# Altium schematic symbol library Molex FFC - FPC Connectors (Through-Hole).SchLib: 219 symbols (part 1 of 7)
Pins are listed as number, name and electrical type; pins without a type are passive.

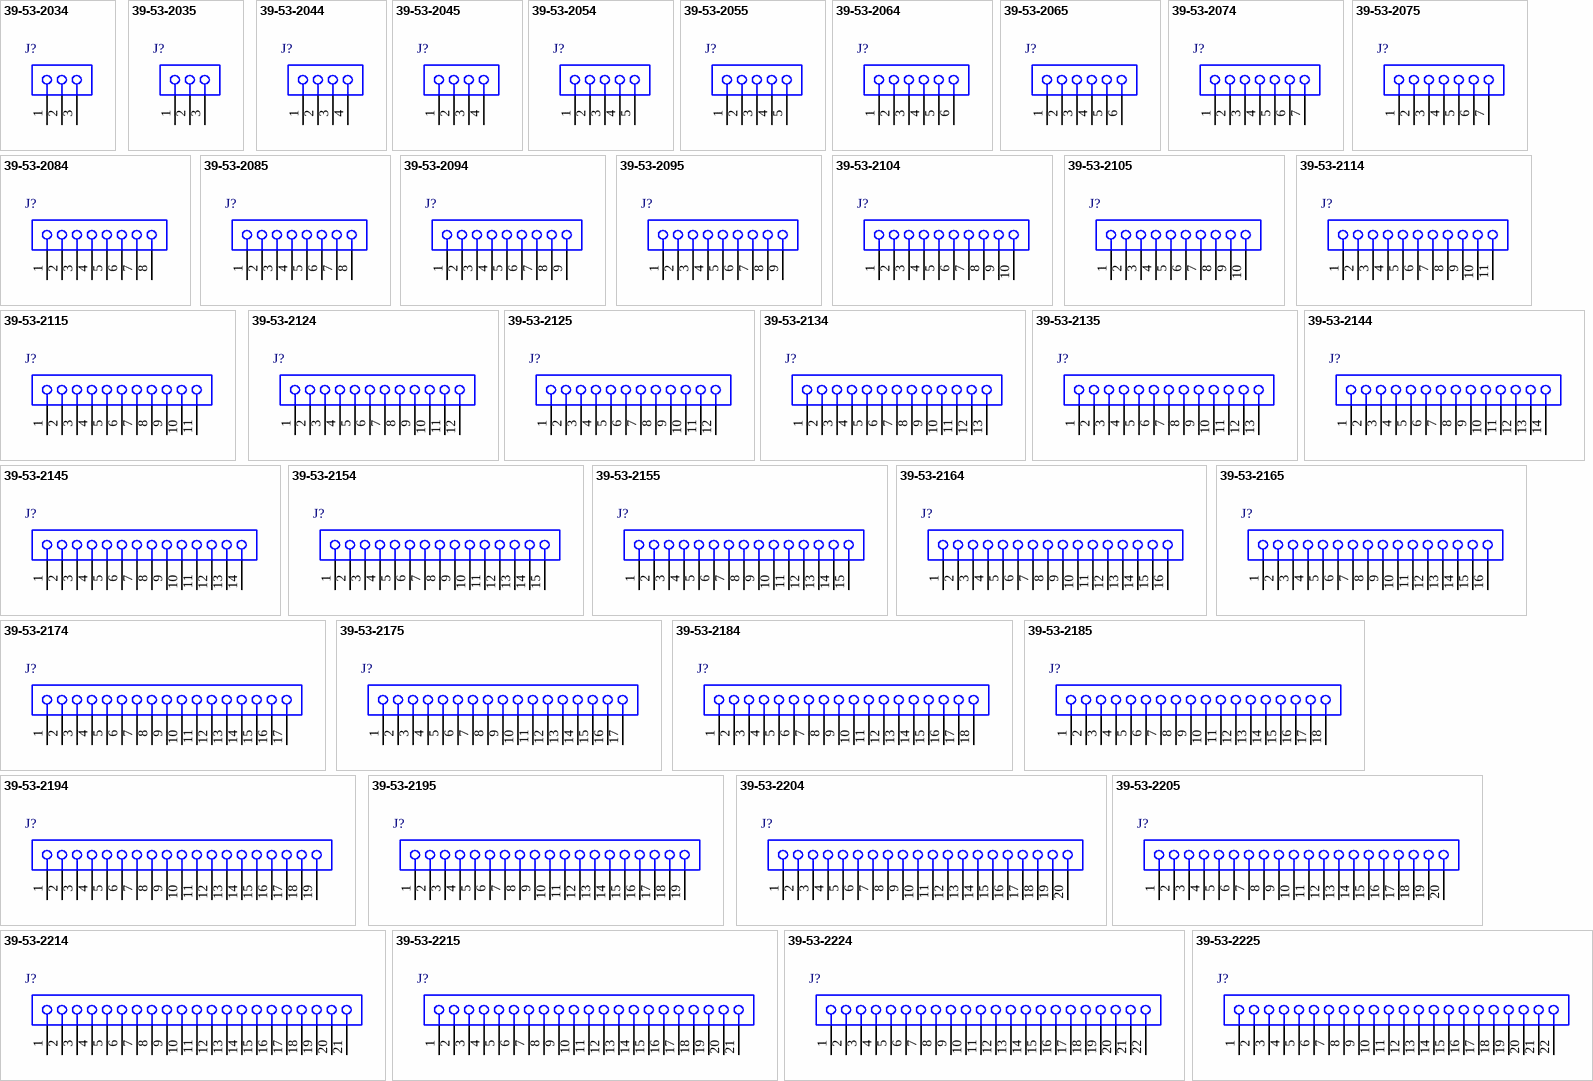
[diagram p0: symbols 39-53-2034 to 39-53-2225]

## 39-53-2034
designator J?
1.25 mm Pitch FPC Connector, 5.0 mm Mated Height, Right Angle, ZIF, Through Hole, Top Contact, 3 Circuits, -20 to 80 degC, ELV and RoHS Compliant, Tray; Manufacturer: Molex; Circuits (Loaded): 3; Current (Max per Contact): 1A; Durability (mating cycles max): 30; Entry Angle: 90degrees Angle; Mated Height: 5.00mm; Material - Metal: Phosphor Bronze; Material - Plating Mating: Tin-Bismuth; PCB Locator: No; PCB Retention: None; Pitch - Mating Interface: 1.25mm; Voltage (Max): 200V; PackageVersion: Rev. B, 04/2007; PackageReference: 39-53-2034; PackageDescription: 3-Lead FPC Connector, Pitch 1.25 mm; Contact Position: Top; Material - Plating Termination: Tin-Bismuth; Number of Rows: 1; Orientation: Right Angle; Packing: Tray; Polarized to PCB: No; RoHS: TRUE; Stackable: No; Mounting Technology: Through Hole; PartNumber: 39-53-2034; ComponentLink1Description: Manufacturer URL; ComponentLink1URL: http://www.molex.com/molex/index.jsp; ComponentLink2Description: Datasheet; ComponentLink2URL: http://www.molex.com/webdocs/datasheets/pdf/en-us/0039532034_FFC_FPC_CONNECTORS.pdf; ComponentLink3Description: Package Specification; ComponentLink3URL: http://www.molex.com/pdm_docs/sd/039532034_sd.pdf
footprint MOLX-39-53-2034 (FPC Connector, 3-Leads, Right Angle, Pitch 1.25 mm, Mated Height 5.0 mm, Through Hole)
pins: 1, 2, 3

## 39-53-2035
designator J?
1.25 mm Pitch FPC Connector, 7.5 mm Mated Height, Vertical, ZIF, Through Hole, 3 Circuits, -20 to 80 degC, ELV and RoHS Compliant, Tray; Manufacturer: Molex; Circuits (Loaded): 3; Current (Max per Contact): 1A; Durability (mating cycles max): 30; Mated Height: 7.50mm; Material - Metal: Phosphor Bronze; Material - Plating Mating: Tin-Bismuth; PCB Locator: No; PCB Retention: None; Pitch - Mating Interface: 1.25mm; Voltage (Max): 200V; PackageVersion: Rev. A, 12/2004; PackageReference: 39-53-2035; PackageDescription: 3-Lead FPC Connector, Pitch 1.25 mm; Contact Position: N/A; Entry Angle: Vertical; Material - Plating Termination: Tin-Bismuth; Number of Rows: 1; Orientation: Vertical; Packing: Tray; Polarized to PCB: No; RoHS: TRUE; Stackable: No; Mounting Technology: Through Hole; PartNumber: 39-53-2035; ComponentLink1Description: Manufacturer URL; ComponentLink1URL: http://www.molex.com/molex/index.jsp; ComponentLink2Description: Datasheet; ComponentLink2URL: http://www.molex.com/webdocs/datasheets/pdf/en-us/0039532035_FFC_FPC_CONNECTORS.pdf; ComponentLink3Description: Package Specification; ComponentLink3URL: http://www.molex.com/pdm_docs/sd/039532035_sd.pdf
footprint MOLX-39-53-2035 (FPC Connector, 3-Leads, Vertical, Pitch 1.25 mm, Mated Height 7.5 mm, Through Hole)
pins: 1, 2, 3

## 39-53-2044
designator J?
1.25 mm Pitch FPC Connector, 5.0 mm Mated Height, Right Angle, ZIF, Through Hole, Top Contact, 4 Circuits, -20 to 80 degC, ELV and RoHS Compliant, Tray; Manufacturer: Molex; Circuits (Loaded): 4; Current (Max per Contact): 1A; Durability (mating cycles max): 30; Entry Angle: 90degrees Angle; Mated Height: 5.00mm; Material - Metal: Phosphor Bronze; Material - Plating Mating: Tin-Bismuth; PCB Locator: No; PCB Retention: None; Pitch - Mating Interface: 1.25mm; Voltage (Max): 200V; PackageVersion: Rev. B, 04/2007; PackageReference: 39-53-2044; PackageDescription: 4-Lead FPC Connector, Pitch 1.25 mm; Contact Position: Top; Material - Plating Termination: Tin-Bismuth; Number of Rows: 1; Orientation: Right Angle; Packing: Tray; Polarized to PCB: No; RoHS: TRUE; Stackable: No; Mounting Technology: Through Hole; PartNumber: 39-53-2044; ComponentLink1Description: Manufacturer URL; ComponentLink1URL: http://www.molex.com/molex/index.jsp; ComponentLink2Description: Datasheet; ComponentLink2URL: http://www.molex.com/webdocs/datasheets/pdf/en-us/0039532044_FFC_FPC_CONNECTORS.pdf; ComponentLink3Description: Package Specification; ComponentLink3URL: http://www.molex.com/pdm_docs/sd/039532044_sd.pdf
footprint MOLX-39-53-2044 (FPC Connector, 4-Leads, Right Angle, Pitch 1.25 mm, Mated Height 5.0 mm, Through Hole)
pins: 1, 2, 3, 4

## 39-53-2045
designator J?
1.25 mm Pitch FPC Connector, 7.5 mm Mated Height, Vertical, ZIF, Through Hole, 4 Circuits, -20 to 80 degC, ELV and RoHS Compliant, Tray; Manufacturer: Molex; Circuits (Loaded): 4; Current (Max per Contact): 1A; Durability (mating cycles max): 30; Mated Height: 7.50mm; Material - Metal: Phosphor Bronze; Material - Plating Mating: Tin-Bismuth; PCB Locator: No; PCB Retention: None; Pitch - Mating Interface: 1.25mm; Voltage (Max): 200V; PackageVersion: Rev. A, 12/2004; PackageReference: 39-53-2045; PackageDescription: 4-Lead FPC Connector, Pitch 1.25 mm; Contact Position: N/A; Entry Angle: Vertical; Material - Plating Termination: Tin-Bismuth; Number of Rows: 1; Orientation: Vertical; Packing: Tray; Polarized to PCB: No; RoHS: TRUE; Stackable: No; Mounting Technology: Through Hole; PartNumber: 39-53-2045; ComponentLink1Description: Manufacturer URL; ComponentLink1URL: http://www.molex.com/molex/index.jsp; ComponentLink2Description: Datasheet; ComponentLink2URL: http://www.molex.com/webdocs/datasheets/pdf/en-us/0039532045_FFC_FPC_CONNECTORS.pdf; ComponentLink3Description: Package Specification; ComponentLink3URL: http://www.molex.com/pdm_docs/sd/039532045_sd.pdf
footprint MOLX-39-53-2045 (FPC Connector, 4-Leads, Vertical, Pitch 1.25 mm, Mated Height 7.5 mm, Through Hole)
pins: 1, 2, 3, 4

## 39-53-2054
designator J?
1.25 mm Pitch FPC Connector, 5.0 mm Mated Height, Right Angle, ZIF, Through Hole, Top Contact, 5 Circuits, -20 to 80 degC, ELV and RoHS Compliant, Tray; Manufacturer: Molex; Circuits (Loaded): 5; Current (Max per Contact): 1A; Durability (mating cycles max): 30; Entry Angle: 90degrees Angle; Mated Height: 5.00mm; Material - Metal: Phosphor Bronze; Material - Plating Mating: Tin-Bismuth; PCB Locator: No; PCB Retention: None; Pitch - Mating Interface: 1.25mm; Voltage (Max): 200V; PackageVersion: Rev. B, 04/2007; PackageReference: 39-53-2054; PackageDescription: 5-Lead FPC Connector, Pitch 1.25 mm; Contact Position: Top; Material - Plating Termination: Tin-Bismuth; Number of Rows: 1; Orientation: Right Angle; Packing: Tray; Polarized to PCB: No; RoHS: TRUE; Stackable: No; Mounting Technology: Through Hole; PartNumber: 39-53-2054; ComponentLink1Description: Manufacturer URL; ComponentLink1URL: http://www.molex.com/molex/index.jsp; ComponentLink2Description: Datasheet; ComponentLink2URL: http://www.molex.com/webdocs/datasheets/pdf/en-us/0039532054_FFC_FPC_CONNECTORS.pdf; ComponentLink3Description: Package Specification; ComponentLink3URL: http://www.molex.com/pdm_docs/sd/039532054_sd.pdf
footprint MOLX-39-53-2054 (FPC Connector, 5-Leads, Right Angle, Pitch 1.25 mm, Mated Height 5.0 mm, Through Hole)
pins: 1, 2, 3, 4, 5

## 39-53-2055
designator J?
1.25 mm Pitch FPC Connector, 7.5 mm Mated Height, Vertical, ZIF, Through Hole, 5 Circuits, -20 to 80 degC, ELV and RoHS Compliant, Tray; Manufacturer: Molex; Circuits (Loaded): 5; Current (Max per Contact): 1A; Durability (mating cycles max): 30; Mated Height: 7.50mm; Material - Metal: Phosphor Bronze; Material - Plating Mating: Tin-Bismuth; PCB Locator: No; PCB Retention: None; Pitch - Mating Interface: 1.25mm; Voltage (Max): 200V; PackageVersion: Rev. A, 12/2004; PackageReference: 39-53-2055; PackageDescription: 5-Lead FPC Connector, Pitch 1.25 mm; Contact Position: N/A; Entry Angle: Vertical; Material - Plating Termination: Tin-Bismuth; Number of Rows: 1; Orientation: Vertical; Packing: Tray; Polarized to PCB: No; RoHS: TRUE; Stackable: No; Mounting Technology: Through Hole; PartNumber: 39-53-2055; ComponentLink1Description: Manufacturer URL; ComponentLink1URL: http://www.molex.com/molex/index.jsp; ComponentLink2Description: Datasheet; ComponentLink2URL: http://www.molex.com/webdocs/datasheets/pdf/en-us/0039532055_FFC_FPC_CONNECTORS.pdf; ComponentLink3Description: Package Specification; ComponentLink3URL: http://www.molex.com/pdm_docs/sd/039532055_sd.pdf
footprint MOLX-39-53-2055 (FPC Connector, 5-Leads, Vertical, Pitch 1.25 mm, Mated Height 7.5 mm, Through Hole)
pins: 1, 2, 3, 4, 5

## 39-53-2064
designator J?
1.25 mm Pitch FPC Connector, 5.0 mm Mated Height, Right Angle, ZIF, Through Hole, Top Contact, 6 Circuits, -20 to 80 degC, ELV and RoHS Compliant, Tray; Manufacturer: Molex; Circuits (Loaded): 6; Current (Max per Contact): 1A; Durability (mating cycles max): 30; Entry Angle: 90degrees Angle; Mated Height: 5.00mm; Material - Metal: Phosphor Bronze; Material - Plating Mating: Tin-Bismuth; PCB Locator: No; PCB Retention: None; Pitch - Mating Interface: 1.25mm; Voltage (Max): 200V; PackageVersion: Rev. B, 04/2007; PackageReference: 39-53-2064; PackageDescription: 6-Lead FPC Connector, Pitch 1.25 mm; Contact Position: Top; Material - Plating Termination: Tin-Bismuth; Number of Rows: 1; Orientation: Right Angle; Packing: Tray; Polarized to PCB: No; RoHS: TRUE; Stackable: No; Mounting Technology: Through Hole; PartNumber: 39-53-2064; ComponentLink1Description: Manufacturer URL; ComponentLink1URL: http://www.molex.com/molex/index.jsp; ComponentLink2Description: Datasheet; ComponentLink2URL: http://www.molex.com/webdocs/datasheets/pdf/en-us/0039532064_FFC_FPC_CONNECTORS.pdf; ComponentLink3Description: Package Specification; ComponentLink3URL: http://www.molex.com/pdm_docs/sd/039532064_sd.pdf
footprint MOLX-39-53-2064 (FPC Connector, 6-Leads, Right Angle, Pitch 1.25 mm, Mated Height 5.0 mm, Through Hole)
pins: 1, 2, 3, 4, 5, 6

## 39-53-2065
designator J?
1.25 mm Pitch FPC Connector, 7.5 mm Mated Height, Vertical, ZIF, Through Hole, 6 Circuits, -20 to 80 degC, ELV and RoHS Compliant, Tray; Manufacturer: Molex; Circuits (Loaded): 6; Current (Max per Contact): 1A; Durability (mating cycles max): 30; Mated Height: 7.50mm; Material - Metal: Phosphor Bronze; Material - Plating Mating: Tin-Bismuth; PCB Locator: No; PCB Retention: None; Pitch - Mating Interface: 1.25mm; Voltage (Max): 200V; PackageVersion: Rev. A, 12/2004; PackageReference: 39-53-2065; PackageDescription: 6-Lead FPC Connector, Pitch 1.25 mm; Contact Position: N/A; Entry Angle: Vertical; Material - Plating Termination: Tin-Bismuth; Number of Rows: 1; Orientation: Vertical; Packing: Tray; Polarized to PCB: No; RoHS: TRUE; Stackable: No; Mounting Technology: Through Hole; PartNumber: 39-53-2065; ComponentLink1Description: Manufacturer URL; ComponentLink1URL: http://www.molex.com/molex/index.jsp; ComponentLink2Description: Datasheet; ComponentLink2URL: http://www.molex.com/webdocs/datasheets/pdf/en-us/0039532065_FFC_FPC_CONNECTORS.pdf; ComponentLink3Description: Package Specification; ComponentLink3URL: http://www.molex.com/pdm_docs/sd/039532065_sd.pdf
footprint MOLX-39-53-2065 (FPC Connector, 6-Leads, Vertical, Pitch 1.25 mm, Mated Height 7.5 mm, Through Hole)
pins: 1, 2, 3, 4, 5, 6

## 39-53-2074
designator J?
1.25 mm Pitch FPC Connector, 5.0 mm Mated Height, Right Angle, ZIF, Through Hole, Top Contact, 7 Circuits, -20 to 80 degC, ELV and RoHS Compliant, Tray; Manufacturer: Molex; Circuits (Loaded): 7; Current (Max per Contact): 1A; Durability (mating cycles max): 30; Entry Angle: 90degrees Angle; Mated Height: 5.00mm; Material - Metal: Phosphor Bronze; Material - Plating Mating: Tin-Bismuth; PCB Locator: No; PCB Retention: None; Pitch - Mating Interface: 1.25mm; Voltage (Max): 200V; PackageVersion: Rev. B, 04/2007; PackageReference: 39-53-2074; PackageDescription: 7-Lead FPC Connector, Pitch 1.25 mm; Contact Position: Top; Material - Plating Termination: Tin-Bismuth; Number of Rows: 1; Orientation: Right Angle; Packing: Tray; Polarized to PCB: No; RoHS: TRUE; Stackable: No; Mounting Technology: Through Hole; PartNumber: 39-53-2074; ComponentLink1Description: Manufacturer URL; ComponentLink1URL: http://www.molex.com/molex/index.jsp; ComponentLink2Description: Datasheet; ComponentLink2URL: http://www.molex.com/webdocs/datasheets/pdf/en-us/0039532074_FFC_FPC_CONNECTORS.pdf; ComponentLink3Description: Package Specification; ComponentLink3URL: http://www.molex.com/pdm_docs/sd/039532074_sd.pdf
footprint MOLX-39-53-2074 (FPC Connector, 7-Leads, Right Angle, Pitch 1.25 mm, Mated Height 5.0 mm, Through Hole)
pins: 1, 2, 3, 4, 5, 6, 7

## 39-53-2075
designator J?
1.25 mm Pitch FPC Connector, 7.5 mm Mated Height, Vertical, ZIF, Through Hole, 7 Circuits, -20 to 80 degC, ELV and RoHS Compliant, Tray; Manufacturer: Molex; Circuits (Loaded): 7; Current (Max per Contact): 1A; Durability (mating cycles max): 30; Mated Height: 7.50mm; Material - Metal: Phosphor Bronze; Material - Plating Mating: Tin-Bismuth; PCB Locator: No; PCB Retention: None; Pitch - Mating Interface: 1.25mm; Voltage (Max): 200V; PackageVersion: Rev. A, 12/2004; PackageReference: 39-53-2075; PackageDescription: 7-Lead FPC Connector, Pitch 1.25 mm; Contact Position: N/A; Entry Angle: Vertical; Material - Plating Termination: Tin-Bismuth; Number of Rows: 1; Orientation: Vertical; Packing: Tray; Polarized to PCB: No; RoHS: TRUE; Stackable: No; Mounting Technology: Through Hole; PartNumber: 39-53-2075; ComponentLink1Description: Manufacturer URL; ComponentLink1URL: http://www.molex.com/molex/index.jsp; ComponentLink2Description: Datasheet; ComponentLink2URL: http://www.molex.com/webdocs/datasheets/pdf/en-us/0039532075_FFC_FPC_CONNECTORS.pdf; ComponentLink3Description: Package Specification; ComponentLink3URL: http://www.molex.com/pdm_docs/sd/039532075_sd.pdf
footprint MOLX-39-53-2075 (FPC Connector, 7-Leads, Vertical, Pitch 1.25 mm, Mated Height 7.5 mm, Through Hole)
pins: 1, 2, 3, 4, 5, 6, 7

## 39-53-2084
designator J?
1.25 mm Pitch FPC Connector, 5.0 mm Mated Height, Right Angle, ZIF, Through Hole, Top Contact, 8 Circuits, -20 to 80 degC, ELV and RoHS Compliant, Tray; Manufacturer: Molex; Circuits (Loaded): 8; Current (Max per Contact): 1A; Durability (mating cycles max): 30; Entry Angle: 90degrees Angle; Mated Height: 5.00mm; Material - Metal: Phosphor Bronze; Material - Plating Mating: Tin-Bismuth; PCB Locator: No; PCB Retention: None; Pitch - Mating Interface: 1.25mm; Voltage (Max): 200V; PackageVersion: Rev. B, 04/2007; PackageReference: 39-53-2084; PackageDescription: 8-Lead FPC Connector, Pitch 1.25 mm; Contact Position: Top; Material - Plating Termination: Tin-Bismuth; Number of Rows: 1; Orientation: Right Angle; Packing: Tray; Polarized to PCB: No; RoHS: TRUE; Stackable: No; Mounting Technology: Through Hole; PartNumber: 39-53-2084; ComponentLink1Description: Manufacturer URL; ComponentLink1URL: http://www.molex.com/molex/index.jsp; ComponentLink2Description: Datasheet; ComponentLink2URL: http://www.molex.com/webdocs/datasheets/pdf/en-us/0039532084_FFC_FPC_CONNECTORS.pdf; ComponentLink3Description: Package Specification; ComponentLink3URL: http://www.molex.com/pdm_docs/sd/039532084_sd.pdf
footprint MOLX-39-53-2084 (FPC Connector, 8-Leads, Right Angle, Pitch 1.25 mm, Mated Height 5.0 mm, Through Hole)
pins: 1, 2, 3, 4, 5, 6, 7, 8

## 39-53-2085
designator J?
1.25 mm Pitch FPC Connector, 7.5 mm Mated Height, Vertical, ZIF, Through Hole, 8 Circuits, -20 to 80 degC, ELV and RoHS Compliant, Tray; Manufacturer: Molex; Circuits (Loaded): 8; Current (Max per Contact): 1A; Durability (mating cycles max): 30; Mated Height: 7.50mm; Material - Metal: Phosphor Bronze; Material - Plating Mating: Tin-Bismuth; PCB Locator: No; PCB Retention: None; Pitch - Mating Interface: 1.25mm; Voltage (Max): 200V; PackageVersion: Rev. A, 12/2004; PackageReference: 39-53-2085; PackageDescription: 8-Lead FPC Connector, Pitch 1.25 mm; Contact Position: N/A; Entry Angle: Vertical; Material - Plating Termination: Tin-Bismuth; Number of Rows: 1; Orientation: Vertical; Packing: Tray; Polarized to PCB: No; RoHS: TRUE; Stackable: No; Mounting Technology: Through Hole; PartNumber: 39-53-2085; ComponentLink1Description: Manufacturer URL; ComponentLink1URL: http://www.molex.com/molex/index.jsp; ComponentLink2Description: Datasheet; ComponentLink2URL: http://www.molex.com/webdocs/datasheets/pdf/en-us/0039532085_FFC_FPC_CONNECTORS.pdf; ComponentLink3Description: Package Specification; ComponentLink3URL: http://www.molex.com/pdm_docs/sd/039532085_sd.pdf
footprint MOLX-39-53-2085 (FPC Connector, 8-Leads, Vertical, Pitch 1.25 mm, Mated Height 7.5 mm, Through Hole)
pins: 1, 2, 3, 4, 5, 6, 7, 8

## 39-53-2094
designator J?
1.25 mm Pitch FPC Connector, 5.0 mm Mated Height, Right Angle, ZIF, Through Hole, Top Contact, 9 Circuits, -20 to 80 degC, ELV and RoHS Compliant, Tray; Manufacturer: Molex; Circuits (Loaded): 9; Current (Max per Contact): 1A; Durability (mating cycles max): 30; Entry Angle: 90degrees Angle; Mated Height: 5.00mm; Material - Metal: Phosphor Bronze; Material - Plating Mating: Tin-Bismuth; PCB Locator: No; PCB Retention: None; Pitch - Mating Interface: 1.25mm; Voltage (Max): 200V; PackageVersion: Rev. B, 04/2007; PackageReference: 39-53-2094; PackageDescription: 9-Lead FPC Connector, Pitch 1.25 mm; Contact Position: Top; Material - Plating Termination: Tin-Bismuth; Number of Rows: 1; Orientation: Right Angle; Packing: Tray; Polarized to PCB: No; RoHS: TRUE; Stackable: No; Mounting Technology: Through Hole; PartNumber: 39-53-2094; ComponentLink1Description: Manufacturer URL; ComponentLink1URL: http://www.molex.com/molex/index.jsp; ComponentLink2Description: Datasheet; ComponentLink2URL: http://www.molex.com/webdocs/datasheets/pdf/en-us/0039532094_FFC_FPC_CONNECTORS.pdf; ComponentLink3Description: Package Specification; ComponentLink3URL: http://www.molex.com/pdm_docs/sd/039532094_sd.pdf
footprint MOLX-39-53-2094 (FPC Connector, 9-Leads, Right Angle, Pitch 1.25 mm, Mated Height 5.0 mm, Through Hole)
pins: 1, 2, 3, 4, 5, 6, 7, 8, 9

## 39-53-2095
designator J?
1.25 mm Pitch FPC Connector, 7.5 mm Mated Height, Vertical, ZIF, Through Hole, 9 Circuits, -20 to 80 degC, ELV and RoHS Compliant, Tray; Manufacturer: Molex; Circuits (Loaded): 9; Current (Max per Contact): 1A; Durability (mating cycles max): 30; Mated Height: 7.50mm; Material - Metal: Phosphor Bronze; Material - Plating Mating: Tin-Bismuth; PCB Locator: No; PCB Retention: None; Pitch - Mating Interface: 1.25mm; Voltage (Max): 200V; PackageVersion: Rev. A, 12/2004; PackageReference: 39-53-2095; PackageDescription: 9-Lead FPC Connector, Pitch 1.25 mm; Contact Position: N/A; Entry Angle: Vertical; Material - Plating Termination: Tin-Bismuth; Number of Rows: 1; Orientation: Vertical; Packing: Tray; Polarized to PCB: No; RoHS: TRUE; Stackable: No; Mounting Technology: Through Hole; PartNumber: 39-53-2095; ComponentLink1Description: Manufacturer URL; ComponentLink1URL: http://www.molex.com/molex/index.jsp; ComponentLink2Description: Datasheet; ComponentLink2URL: http://www.molex.com/webdocs/datasheets/pdf/en-us/0039532095_FFC_FPC_CONNECTORS.pdf; ComponentLink3Description: Package Specification; ComponentLink3URL: http://www.molex.com/pdm_docs/sd/039532095_sd.pdf
footprint MOLX-39-53-2095 (FPC Connector, 9-Leads, Vertical, Pitch 1.25 mm, Mated Height 7.5 mm, Through Hole)
pins: 1, 2, 3, 4, 5, 6, 7, 8, 9

## 39-53-2104
designator J?
1.25 mm Pitch FPC Connector, 5.0 mm Mated Height, Right Angle, ZIF, Through Hole, Top Contact, 10 Circuits, -20 to 80 degC, ELV and RoHS Compliant, Tray; Manufacturer: Molex; Circuits (Loaded): 10; Current (Max per Contact): 1A; Durability (mating cycles max): 30; Entry Angle: 90degrees Angle; Mated Height: 5.00mm; Material - Metal: Phosphor Bronze; Material - Plating Mating: Tin-Bismuth; PCB Locator: No; PCB Retention: None; Pitch - Mating Interface: 1.25mm; Voltage (Max): 200V; PackageVersion: Rev. B, 04/2007; PackageReference: 39-53-2104; PackageDescription: 10-Lead FPC Connector, Pitch 1.25 mm; Contact Position: Top; Material - Plating Termination: Tin-Bismuth; Number of Rows: 1; Orientation: Right Angle; Packing: Tray; Polarized to PCB: No; RoHS: TRUE; Stackable: No; Mounting Technology: Through Hole; PartNumber: 39-53-2104; ComponentLink1Description: Manufacturer URL; ComponentLink1URL: http://www.molex.com/molex/index.jsp; ComponentLink2Description: Datasheet; ComponentLink2URL: http://www.molex.com/webdocs/datasheets/pdf/en-us/0039532104_FFC_FPC_CONNECTORS.pdf; ComponentLink3Description: Package Specification; ComponentLink3URL: http://www.molex.com/pdm_docs/sd/039532104_sd.pdf
footprint MOLX-39-53-2104 (FPC Connector, 10-Leads, Right Angle, Pitch 1.25 mm, Mated Height 5.0 mm, Through Hole)
pins: 1, 2, 3, 4, 5, 6, 7, 8, 9, 10

## 39-53-2105
designator J?
1.25 mm Pitch FPC Connector, 7.5 mm Mated Height, Vertical, ZIF, Through Hole, 10 Circuits, -20 to 80 degC, ELV and RoHS Compliant, Tray; Manufacturer: Molex; Circuits (Loaded): 10; Current (Max per Contact): 1A; Durability (mating cycles max): 30; Mated Height: 7.50mm; Material - Metal: Phosphor Bronze; Material - Plating Mating: Tin-Bismuth; PCB Locator: No; PCB Retention: None; Pitch - Mating Interface: 1.25mm; Voltage (Max): 200V; PackageVersion: Rev. A, 12/2004; PackageReference: 39-53-2105; PackageDescription: 10-Lead FPC Connector, Pitch 1.25 mm; Contact Position: N/A; Entry Angle: Vertical; Material - Plating Termination: Tin-Bismuth; Number of Rows: 1; Orientation: Vertical; Packing: Tray; Polarized to PCB: No; RoHS: TRUE; Stackable: No; Mounting Technology: Through Hole; PartNumber: 39-53-2105; ComponentLink1Description: Manufacturer URL; ComponentLink1URL: http://www.molex.com/molex/index.jsp; ComponentLink2Description: Datasheet; ComponentLink2URL: http://www.molex.com/webdocs/datasheets/pdf/en-us/0039532105_FFC_FPC_CONNECTORS.pdf; ComponentLink3Description: Package Specification; ComponentLink3URL: http://www.molex.com/pdm_docs/sd/039532105_sd.pdf
footprint MOLX-39-53-2105 (FPC Connector, 10-Leads, Vertical, Pitch 1.25 mm, Mated Height 7.5 mm, Through Hole)
pins: 1, 2, 3, 4, 5, 6, 7, 8, 9, 10

## 39-53-2114
designator J?
1.25 mm Pitch FPC Connector, 5.0 mm Mated Height, Right Angle, ZIF, Through Hole, Top Contact, 11 Circuits, -20 to 80 degC, ELV and RoHS Compliant, Tray; Manufacturer: Molex; Circuits (Loaded): 11; Current (Max per Contact): 1A; Durability (mating cycles max): 30; Entry Angle: 90degrees Angle; Mated Height: 5.00mm; Material - Metal: Phosphor Bronze; Material - Plating Mating: Tin-Bismuth; PCB Locator: No; PCB Retention: None; Pitch - Mating Interface: 1.25mm; Voltage (Max): 200V; PackageVersion: Rev. B, 04/2007; PackageReference: 39-53-2114; PackageDescription: 11-Lead FPC Connector, Pitch 1.25 mm; Contact Position: Top; Material - Plating Termination: Tin-Bismuth; Number of Rows: 1; Orientation: Right Angle; Packing: Tray; Polarized to PCB: No; RoHS: TRUE; Stackable: No; Mounting Technology: Through Hole; PartNumber: 39-53-2114; ComponentLink1Description: Manufacturer URL; ComponentLink1URL: http://www.molex.com/molex/index.jsp; ComponentLink2Description: Datasheet; ComponentLink2URL: http://www.molex.com/webdocs/datasheets/pdf/en-us/0039532114_FFC_FPC_CONNECTORS.pdf; ComponentLink3Description: Package Specification; ComponentLink3URL: http://www.molex.com/pdm_docs/sd/039532114_sd.pdf
footprint MOLX-39-53-2114 (FPC Connector, 11-Leads, Right Angle, Pitch 1.25 mm, Mated Height 5.0 mm, Through Hole)
pins: 1, 2, 3, 4, 5, 6, 7, 8, 9, 10, 11

## 39-53-2115
designator J?
1.25 mm Pitch FPC Connector, 7.5 mm Mated Height, Vertical, ZIF, Through Hole, 11 Circuits, -20 to 80 degC, ELV and RoHS Compliant, Tray; Manufacturer: Molex; Circuits (Loaded): 11; Current (Max per Contact): 1A; Durability (mating cycles max): 30; Mated Height: 7.50mm; Material - Metal: Phosphor Bronze; Material - Plating Mating: Tin-Bismuth; PCB Locator: No; PCB Retention: None; Pitch - Mating Interface: 1.25mm; Voltage (Max): 200V; PackageVersion: Rev. A, 12/2004; PackageReference: 39-53-2115; PackageDescription: 11-Lead FPC Connector, Pitch 1.25 mm; Contact Position: N/A; Entry Angle: Vertical; Material - Plating Termination: Tin-Bismuth; Number of Rows: 1; Orientation: Vertical; Packing: Tray; Polarized to PCB: No; RoHS: TRUE; Stackable: No; Mounting Technology: Through Hole; PartNumber: 39-53-2115; ComponentLink1Description: Manufacturer URL; ComponentLink1URL: http://www.molex.com/molex/index.jsp; ComponentLink2Description: Datasheet; ComponentLink2URL: http://www.molex.com/webdocs/datasheets/pdf/en-us/0039532115_FFC_FPC_CONNECTORS.pdf; ComponentLink3Description: Package Specification; ComponentLink3URL: http://www.molex.com/pdm_docs/sd/039532115_sd.pdf
footprint MOLX-39-53-2115 (FPC Connector, 11-Leads, Vertical, Pitch 1.25 mm, Mated Height 7.5 mm, Through Hole)
pins: 1, 2, 3, 4, 5, 6, 7, 8, 9, 10, 11

## 39-53-2124
designator J?
1.25 mm Pitch FPC Connector, 5.0 mm Mated Height, Right Angle, ZIF, Through Hole, Top Contact, 12 Circuits, -20 to 80 degC, ELV and RoHS Compliant, Tray; Manufacturer: Molex; Circuits (Loaded): 12; Current (Max per Contact): 1A; Durability (mating cycles max): 30; Entry Angle: 90degrees Angle; Mated Height: 5.00mm; Material - Metal: Phosphor Bronze; Material - Plating Mating: Tin-Bismuth; PCB Locator: No; PCB Retention: None; Pitch - Mating Interface: 1.25mm; Voltage (Max): 200V; PackageVersion: Rev. B, 04/2007; PackageReference: 39-53-2124; PackageDescription: 12-Lead FPC Connector, Pitch 1.25 mm; Contact Position: Top; Material - Plating Termination: Tin-Bismuth; Number of Rows: 1; Orientation: Right Angle; Packing: Tray; Polarized to PCB: No; RoHS: TRUE; Stackable: No; Mounting Technology: Through Hole; PartNumber: 39-53-2124; ComponentLink1Description: Manufacturer URL; ComponentLink1URL: http://www.molex.com/molex/index.jsp; ComponentLink2Description: Datasheet; ComponentLink2URL: http://www.molex.com/webdocs/datasheets/pdf/en-us/0039532124_FFC_FPC_CONNECTORS.pdf; ComponentLink3Description: Package Specification; ComponentLink3URL: http://www.molex.com/pdm_docs/sd/039532124_sd.pdf
footprint MOLX-39-53-2124 (FPC Connector, 12-Leads, Right Angle, Pitch 1.25 mm, Mated Height 5.0 mm, Through Hole)
pins: 1, 2, 3, 4, 5, 6, 7, 8, 9, 10, 11, 12

## 39-53-2125
designator J?
1.25 mm Pitch FPC Connector, 7.5 mm Mated Height, Vertical, ZIF, Through Hole, 12 Circuits, -20 to 80 degC, ELV and RoHS Compliant, Tray; Manufacturer: Molex; Circuits (Loaded): 12; Current (Max per Contact): 1A; Durability (mating cycles max): 30; Mated Height: 7.50mm; Material - Metal: Phosphor Bronze; Material - Plating Mating: Tin-Bismuth; PCB Locator: No; PCB Retention: None; Pitch - Mating Interface: 1.25mm; Voltage (Max): 200V; PackageVersion: Rev. A, 12/2004; PackageReference: 39-53-2125; PackageDescription: 12-Lead FPC Connector, Pitch 1.25 mm; Contact Position: N/A; Entry Angle: Vertical; Material - Plating Termination: Tin-Bismuth; Number of Rows: 1; Orientation: Vertical; Packing: Tray; Polarized to PCB: No; RoHS: TRUE; Stackable: No; Mounting Technology: Through Hole; PartNumber: 39-53-2125; ComponentLink1Description: Manufacturer URL; ComponentLink1URL: http://www.molex.com/molex/index.jsp; ComponentLink2Description: Datasheet; ComponentLink2URL: http://www.molex.com/webdocs/datasheets/pdf/en-us/0039532125_FFC_FPC_CONNECTORS.pdf; ComponentLink3Description: Package Specification; ComponentLink3URL: http://www.molex.com/pdm_docs/sd/039532125_sd.pdf
footprint MOLX-39-53-2125 (FPC Connector, 12-Leads, Vertical, Pitch 1.25 mm, Mated Height 7.5 mm, Through Hole)
pins: 1, 2, 3, 4, 5, 6, 7, 8, 9, 10, 11, 12

## 39-53-2134
designator J?
1.25 mm Pitch FPC Connector, 5.0 mm Mated Height, Right Angle, ZIF, Through Hole, Top Contact, 13 Circuits, -20 to 80 degC, ELV and RoHS Compliant, Tray; Manufacturer: Molex; Circuits (Loaded): 13; Current (Max per Contact): 1A; Durability (mating cycles max): 30; Entry Angle: 90degrees Angle; Mated Height: 5.00mm; Material - Metal: Phosphor Bronze; Material - Plating Mating: Tin-Bismuth; PCB Locator: No; PCB Retention: None; Pitch - Mating Interface: 1.25mm; Voltage (Max): 200V; PackageVersion: Rev. B, 04/2007; PackageReference: 39-53-2134; PackageDescription: 13-Lead FPC Connector, Pitch 1.25 mm; Contact Position: Top; Material - Plating Termination: Tin-Bismuth; Number of Rows: 1; Orientation: Right Angle; Packing: Tray; Polarized to PCB: No; RoHS: TRUE; Stackable: No; Mounting Technology: Through Hole; PartNumber: 39-53-2134; ComponentLink1Description: Manufacturer URL; ComponentLink1URL: http://www.molex.com/molex/index.jsp; ComponentLink2Description: Datasheet; ComponentLink2URL: http://www.molex.com/webdocs/datasheets/pdf/en-us/0039532134_FFC_FPC_CONNECTORS.pdf; ComponentLink3Description: Package Specification; ComponentLink3URL: http://www.molex.com/pdm_docs/sd/039532134_sd.pdf
footprint MOLX-39-53-2134 (FPC Connector, 13-Leads, Right Angle, Pitch 1.25 mm, Mated Height 5.0 mm, Through Hole)
pins: 1, 2, 3, 4, 5, 6, 7, 8, 9, 10, 11, 12, 13

## 39-53-2135
designator J?
1.25 mm Pitch FPC Connector, 7.5 mm Mated Height, Vertical, ZIF, Through Hole, 13 Circuits, -20 to 80 degC, ELV and RoHS Compliant, Tray; Manufacturer: Molex; Circuits (Loaded): 13; Current (Max per Contact): 1A; Durability (mating cycles max): 30; Mated Height: 7.50mm; Material - Metal: Phosphor Bronze; Material - Plating Mating: Tin-Bismuth; PCB Locator: No; PCB Retention: None; Pitch - Mating Interface: 1.25mm; Voltage (Max): 200V; PackageVersion: Rev. A, 12/2004; PackageReference: 39-53-2135; PackageDescription: 13-Lead FPC Connector, Pitch 1.25 mm; Contact Position: N/A; Entry Angle: Vertical; Material - Plating Termination: Tin-Bismuth; Number of Rows: 1; Orientation: Vertical; Packing: Tray; Polarized to PCB: No; RoHS: TRUE; Stackable: No; Mounting Technology: Through Hole; PartNumber: 39-53-2135; ComponentLink1Description: Manufacturer URL; ComponentLink1URL: http://www.molex.com/molex/index.jsp; ComponentLink2Description: Datasheet; ComponentLink2URL: http://www.molex.com/webdocs/datasheets/pdf/en-us/0039532135_FFC_FPC_CONNECTORS.pdf; ComponentLink3Description: Package Specification; ComponentLink3URL: http://www.molex.com/pdm_docs/sd/039532135_sd.pdf
footprint MOLX-39-53-2135 (FPC Connector, 13-Leads, Vertical, Pitch 1.25 mm, Mated Height 7.5 mm, Through Hole)
pins: 1, 2, 3, 4, 5, 6, 7, 8, 9, 10, 11, 12, 13

## 39-53-2144
designator J?
1.25 mm Pitch FPC Connector, 5.0 mm Mated Height, Right Angle, ZIF, Through Hole, Top Contact, 14 Circuits, -20 to 80 degC, ELV and RoHS Compliant, Tray; Manufacturer: Molex; Circuits (Loaded): 14; Current (Max per Contact): 1A; Durability (mating cycles max): 30; Entry Angle: 90degrees Angle; Mated Height: 5.00mm; Material - Metal: Phosphor Bronze; Material - Plating Mating: Tin-Bismuth; PCB Locator: No; PCB Retention: None; Pitch - Mating Interface: 1.25mm; Voltage (Max): 200V; PackageVersion: Rev. B, 04/2007; PackageReference: 39-53-2144; PackageDescription: 14-Lead FPC Connector, Pitch 1.25 mm; Contact Position: Top; Material - Plating Termination: Tin-Bismuth; Number of Rows: 1; Orientation: Right Angle; Packing: Tray; Polarized to PCB: No; RoHS: TRUE; Stackable: No; Mounting Technology: Through Hole; PartNumber: 39-53-2144; ComponentLink1Description: Manufacturer URL; ComponentLink1URL: http://www.molex.com/molex/index.jsp; ComponentLink2Description: Datasheet; ComponentLink2URL: http://www.molex.com/webdocs/datasheets/pdf/en-us/0039532144_FFC_FPC_CONNECTORS.pdf; ComponentLink3Description: Package Specification; ComponentLink3URL: http://www.molex.com/pdm_docs/sd/039532144_sd.pdf
footprint MOLX-39-53-2144 (FPC Connector, 14-Leads, Right Angle, Pitch 1.25 mm, Mated Height 5.0 mm, Through Hole)
pins: 1, 2, 3, 4, 5, 6, 7, 8, 9, 10, 11, 12, 13, 14

## 39-53-2145
designator J?
1.25 mm Pitch FPC Connector, 7.5 mm Mated Height, Vertical, ZIF, Through Hole, 14 Circuits, -20 to 80 degC, ELV and RoHS Compliant, Tray; Manufacturer: Molex; Circuits (Loaded): 14; Current (Max per Contact): 1A; Durability (mating cycles max): 30; Mated Height: 7.50mm; Material - Metal: Phosphor Bronze; Material - Plating Mating: Tin-Bismuth; PCB Locator: No; PCB Retention: None; Pitch - Mating Interface: 1.25mm; Voltage (Max): 200V; PackageVersion: Rev. A, 12/2004; PackageReference: 39-53-2145; PackageDescription: 14-Lead FPC Connector, Pitch 1.25 mm; Contact Position: N/A; Entry Angle: Vertical; Material - Plating Termination: Tin-Bismuth; Number of Rows: 1; Orientation: Vertical; Packing: Tray; Polarized to PCB: No; RoHS: TRUE; Stackable: No; Mounting Technology: Through Hole; PartNumber: 39-53-2145; ComponentLink1Description: Manufacturer URL; ComponentLink1URL: http://www.molex.com/molex/index.jsp; ComponentLink2Description: Datasheet; ComponentLink2URL: http://www.molex.com/webdocs/datasheets/pdf/en-us/0039532145_FFC_FPC_CONNECTORS.pdf; ComponentLink3Description: Package Specification; ComponentLink3URL: http://www.molex.com/pdm_docs/sd/039532145_sd.pdf
footprint MOLX-39-53-2145 (FPC Connector, 14-Leads, Vertical, Pitch 1.25 mm, Mated Height 7.5 mm, Through Hole)
pins: 1, 2, 3, 4, 5, 6, 7, 8, 9, 10, 11, 12, 13, 14

## 39-53-2154
designator J?
1.25 mm Pitch FPC Connector, 5.0 mm Mated Height, Right Angle, ZIF, Through Hole, Top Contact, 15 Circuits, -20 to 80 degC, ELV and RoHS Compliant, Tray; Manufacturer: Molex; Circuits (Loaded): 15; Current (Max per Contact): 1A; Durability (mating cycles max): 30; Entry Angle: 90degrees Angle; Mated Height: 5.00mm; Material - Metal: Phosphor Bronze; Material - Plating Mating: Tin-Bismuth; PCB Locator: No; PCB Retention: None; Pitch - Mating Interface: 1.25mm; Voltage (Max): 200V; PackageVersion: Rev. B, 04/2007; PackageReference: 39-53-2154; PackageDescription: 15-Lead FPC Connector, Pitch 1.25 mm; Contact Position: Top; Material - Plating Termination: Tin-Bismuth; Number of Rows: 1; Orientation: Right Angle; Packing: Tray; Polarized to PCB: No; RoHS: TRUE; Stackable: No; Mounting Technology: Through Hole; PartNumber: 39-53-2154; ComponentLink1Description: Manufacturer URL; ComponentLink1URL: http://www.molex.com/molex/index.jsp; ComponentLink2Description: Datasheet; ComponentLink2URL: http://www.molex.com/webdocs/datasheets/pdf/en-us/0039532154_FFC_FPC_CONNECTORS.pdf; ComponentLink3Description: Package Specification; ComponentLink3URL: http://www.molex.com/pdm_docs/sd/039532154_sd.pdf
footprint MOLX-39-53-2154 (FPC Connector, 15-Leads, Right Angle, Pitch 1.25 mm, Mated Height 5.0 mm, Through Hole)
pins: 1, 2, 3, 4, 5, 6, 7, 8, 9, 10, 11, 12, 13, 14, 15

## 39-53-2155
designator J?
1.25 mm Pitch FPC Connector, 7.5 mm Mated Height, Vertical, ZIF, Through Hole, 15 Circuits, -20 to 80 degC, ELV and RoHS Compliant, Tray; Manufacturer: Molex; Circuits (Loaded): 15; Current (Max per Contact): 1A; Durability (mating cycles max): 30; Mated Height: 7.50mm; Material - Metal: Phosphor Bronze; Material - Plating Mating: Tin-Bismuth; PCB Locator: No; PCB Retention: None; Pitch - Mating Interface: 1.25mm; Voltage (Max): 200V; PackageVersion: Rev. A, 12/2004; PackageReference: 39-53-2155; PackageDescription: 15-Lead FPC Connector, Pitch 1.25 mm; Contact Position: N/A; Entry Angle: Vertical; Material - Plating Termination: Tin-Bismuth; Number of Rows: 1; Orientation: Vertical; Packing: Tray; Polarized to PCB: No; RoHS: TRUE; Stackable: No; Mounting Technology: Through Hole; PartNumber: 39-53-2155; ComponentLink1Description: Manufacturer URL; ComponentLink1URL: http://www.molex.com/molex/index.jsp; ComponentLink2Description: Datasheet; ComponentLink2URL: http://www.molex.com/webdocs/datasheets/pdf/en-us/0039532155_FFC_FPC_CONNECTORS.pdf; ComponentLink3Description: Package Specification; ComponentLink3URL: http://www.molex.com/pdm_docs/sd/039532155_sd.pdf
footprint MOLX-39-53-2155 (FPC Connector, 15-Leads, Vertical, Pitch 1.25 mm, Mated Height 7.5 mm, Through Hole)
pins: 1, 2, 3, 4, 5, 6, 7, 8, 9, 10, 11, 12, 13, 14, 15

## 39-53-2164
designator J?
1.25 mm Pitch FPC Connector, 5.0 mm Mated Height, Right Angle, ZIF, Through Hole, Top Contact, 16 Circuits, -20 to 80 degC, ELV and RoHS Compliant, Tray; Manufacturer: Molex; Circuits (Loaded): 16; Current (Max per Contact): 1A; Durability (mating cycles max): 30; Entry Angle: 90degrees Angle; Mated Height: 5.00mm; Material - Metal: Phosphor Bronze; Material - Plating Mating: Tin-Bismuth; PCB Locator: No; PCB Retention: None; Pitch - Mating Interface: 1.25mm; Voltage (Max): 200V; PackageVersion: Rev. B, 04/2007; PackageReference: 39-53-2164; PackageDescription: 16-Lead FPC Connector, Pitch 1.25 mm; Contact Position: Top; Material - Plating Termination: Tin-Bismuth; Number of Rows: 1; Orientation: Right Angle; Packing: Tray; Polarized to PCB: No; RoHS: TRUE; Stackable: No; Mounting Technology: Through Hole; PartNumber: 39-53-2164; ComponentLink1Description: Manufacturer URL; ComponentLink1URL: http://www.molex.com/molex/index.jsp; ComponentLink2Description: Datasheet; ComponentLink2URL: http://www.molex.com/webdocs/datasheets/pdf/en-us/0039532164_FFC_FPC_CONNECTORS.pdf; ComponentLink3Description: Package Specification; ComponentLink3URL: http://www.molex.com/pdm_docs/sd/039532164_sd.pdf
footprint MOLX-39-53-2164 (FPC Connector, 16-Leads, Right Angle, Pitch 1.25 mm, Mated Height 5.0 mm, Through Hole)
pins: 1, 2, 3, 4, 5, 6, 7, 8, 9, 10, 11, 12, 13, 14, 15, 16

## 39-53-2165
designator J?
1.25 mm Pitch FPC Connector, 7.5 mm Mated Height, Vertical, ZIF, Through Hole, 16 Circuits, -20 to 80 degC, ELV and RoHS Compliant, Tray; Manufacturer: Molex; Circuits (Loaded): 16; Current (Max per Contact): 1A; Durability (mating cycles max): 30; Mated Height: 7.50mm; Material - Metal: Phosphor Bronze; Material - Plating Mating: Tin-Bismuth; PCB Locator: No; PCB Retention: None; Pitch - Mating Interface: 1.25mm; Voltage (Max): 200V; PackageVersion: Rev. A, 12/2004; PackageReference: 39-53-2165; PackageDescription: 16-Lead FPC Connector, Pitch 1.25 mm; Contact Position: N/A; Entry Angle: Vertical; Material - Plating Termination: Tin-Bismuth; Number of Rows: 1; Orientation: Vertical; Packing: Tray; Polarized to PCB: No; RoHS: TRUE; Stackable: No; Mounting Technology: Through Hole; PartNumber: 39-53-2165; ComponentLink1Description: Manufacturer URL; ComponentLink1URL: http://www.molex.com/molex/index.jsp; ComponentLink2Description: Datasheet; ComponentLink2URL: http://www.molex.com/webdocs/datasheets/pdf/en-us/0039532165_FFC_FPC_CONNECTORS.pdf; ComponentLink3Description: Package Specification; ComponentLink3URL: http://www.molex.com/pdm_docs/sd/039532165_sd.pdf
footprint MOLX-39-53-2165 (FPC Connector, 16-Leads, Vertical, Pitch 1.25 mm, Mated Height 7.5 mm, Through Hole)
pins: 1, 2, 3, 4, 5, 6, 7, 8, 9, 10, 11, 12, 13, 14, 15, 16

## 39-53-2174
designator J?
1.25 mm Pitch FPC Connector, 5.0 mm Mated Height, Right Angle, ZIF, Through Hole, Top Contact, 17 Circuits, -20 to 80 degC, ELV and RoHS Compliant, Tray; Manufacturer: Molex; Circuits (Loaded): 17; Current (Max per Contact): 1A; Durability (mating cycles max): 30; Entry Angle: 90degrees Angle; Mated Height: 5.00mm; Material - Metal: Phosphor Bronze; Material - Plating Mating: Tin-Bismuth; PCB Locator: No; PCB Retention: None; Pitch - Mating Interface: 1.25mm; Voltage (Max): 200V; PackageVersion: Rev. B, 04/2007; PackageReference: 39-53-2174; PackageDescription: 17-Lead FPC Connector, Pitch 1.25 mm; Contact Position: Top; Material - Plating Termination: Tin-Bismuth; Number of Rows: 1; Orientation: Right Angle; Packing: Tray; Polarized to PCB: No; RoHS: TRUE; Stackable: No; Mounting Technology: Through Hole; PartNumber: 39-53-2174; ComponentLink1Description: Manufacturer URL; ComponentLink1URL: http://www.molex.com/molex/index.jsp; ComponentLink2Description: Datasheet; ComponentLink2URL: http://www.molex.com/webdocs/datasheets/pdf/en-us/0039532174_FFC_FPC_CONNECTORS.pdf; ComponentLink3Description: Package Specification; ComponentLink3URL: http://www.molex.com/pdm_docs/sd/039532174_sd.pdf
footprint MOLX-39-53-2174 (FPC Connector, 17-Leads, Right Angle, Pitch 1.25 mm, Mated Height 5.0 mm, Through Hole)
pins: 1, 2, 3, 4, 5, 6, 7, 8, 9, 10, 11, 12, 13, 14, 15, 16, 17

## 39-53-2175
designator J?
1.25 mm Pitch FPC Connector, 7.5 mm Mated Height, Vertical, ZIF, Through Hole, 17 Circuits, -20 to 80 degC, ELV and RoHS Compliant, Tray; Manufacturer: Molex; Circuits (Loaded): 17; Current (Max per Contact): 1A; Durability (mating cycles max): 30; Mated Height: 7.50mm; Material - Metal: Phosphor Bronze; Material - Plating Mating: Tin-Bismuth; PCB Locator: No; PCB Retention: None; Pitch - Mating Interface: 1.25mm; Voltage (Max): 200V; PackageVersion: Rev. A, 12/2004; PackageReference: 39-53-2175; PackageDescription: 17-Lead FPC Connector, Pitch 1.25 mm; Contact Position: N/A; Entry Angle: Vertical; Material - Plating Termination: Tin-Bismuth; Number of Rows: 1; Orientation: Vertical; Packing: Tray; Polarized to PCB: No; RoHS: TRUE; Stackable: No; Mounting Technology: Through Hole; PartNumber: 39-53-2175; ComponentLink1Description: Manufacturer URL; ComponentLink1URL: http://www.molex.com/molex/index.jsp; ComponentLink2Description: Datasheet; ComponentLink2URL: http://www.molex.com/webdocs/datasheets/pdf/en-us/0039532175_FFC_FPC_CONNECTORS.pdf; ComponentLink3Description: Package Specification; ComponentLink3URL: http://www.molex.com/pdm_docs/sd/039532175_sd.pdf
footprint MOLX-39-53-2175 (FPC Connector, 17-Leads, Vertical, Pitch 1.25 mm, Mated Height 7.5 mm, Through Hole)
pins: 1, 2, 3, 4, 5, 6, 7, 8, 9, 10, 11, 12, 13, 14, 15, 16, 17

## 39-53-2184
designator J?
1.25 mm Pitch FPC Connector, 5.0 mm Mated Height, Right Angle, ZIF, Through Hole, Top Contact, 18 Circuits, -20 to 80 degC, ELV and RoHS Compliant, Tray; Manufacturer: Molex; Circuits (Loaded): 18; Current (Max per Contact): 1A; Durability (mating cycles max): 30; Entry Angle: 90degrees Angle; Mated Height: 5.00mm; Material - Metal: Phosphor Bronze; Material - Plating Mating: Tin-Bismuth; PCB Locator: No; PCB Retention: None; Pitch - Mating Interface: 1.25mm; Voltage (Max): 200V; PackageVersion: Rev. B, 04/2007; PackageReference: 39-53-2184; PackageDescription: 18-Lead FPC Connector, Pitch 1.25 mm; Contact Position: Top; Material - Plating Termination: Tin-Bismuth; Number of Rows: 1; Orientation: Right Angle; Packing: Tray; Polarized to PCB: No; RoHS: TRUE; Stackable: No; Mounting Technology: Through Hole; PartNumber: 39-53-2184; ComponentLink1Description: Manufacturer URL; ComponentLink1URL: http://www.molex.com/molex/index.jsp; ComponentLink2Description: Datasheet; ComponentLink2URL: http://www.molex.com/webdocs/datasheets/pdf/en-us/0039532184_FFC_FPC_CONNECTORS.pdf; ComponentLink3Description: Package Specification; ComponentLink3URL: http://www.molex.com/pdm_docs/sd/039532184_sd.pdf
footprint MOLX-39-53-2184 (FPC Connector, 18-Leads, Right Angle, Pitch 1.25 mm, Mated Height 5.0 mm, Through Hole)
pins: 1, 2, 3, 4, 5, 6, 7, 8, 9, 10, 11, 12, 13, 14, 15, 16, 17, 18

## 39-53-2185
designator J?
1.25 mm Pitch FPC Connector, 7.5 mm Mated Height, Vertical, ZIF, Through Hole, 18 Circuits, -20 to 80 degC, ELV and RoHS Compliant, Tray; Manufacturer: Molex; Circuits (Loaded): 18; Current (Max per Contact): 1A; Durability (mating cycles max): 30; Mated Height: 7.50mm; Material - Metal: Phosphor Bronze; Material - Plating Mating: Tin-Bismuth; PCB Locator: No; PCB Retention: None; Pitch - Mating Interface: 1.25mm; Voltage (Max): 200V; PackageVersion: Rev. A, 12/2004; PackageReference: 39-53-2185; PackageDescription: 18-Lead FPC Connector, Pitch 1.25 mm; Contact Position: N/A; Entry Angle: Vertical; Material - Plating Termination: Tin-Bismuth; Number of Rows: 1; Orientation: Vertical; Packing: Tray; Polarized to PCB: No; RoHS: TRUE; Stackable: No; Mounting Technology: Through Hole; PartNumber: 39-53-2185; ComponentLink1Description: Manufacturer URL; ComponentLink1URL: http://www.molex.com/molex/index.jsp; ComponentLink2Description: Datasheet; ComponentLink2URL: http://www.molex.com/webdocs/datasheets/pdf/en-us/0039532185_FFC_FPC_CONNECTORS.pdf; ComponentLink3Description: Package Specification; ComponentLink3URL: http://www.molex.com/pdm_docs/sd/039532185_sd.pdf
footprint MOLX-39-53-2185 (FPC Connector, 18-Leads, Vertical, Pitch 1.25 mm, Mated Height 7.5 mm, Through Hole)
pins: 1, 2, 3, 4, 5, 6, 7, 8, 9, 10, 11, 12, 13, 14, 15, 16, 17, 18

## 39-53-2194
designator J?
1.25 mm Pitch FPC Connector, 5.0 mm Mated Height, Right Angle, ZIF, Through Hole, Top Contact, 19 Circuits, -20 to 80 degC, ELV and RoHS Compliant, Tray; Manufacturer: Molex; Circuits (Loaded): 19; Current (Max per Contact): 1A; Durability (mating cycles max): 30; Entry Angle: 90degrees Angle; Mated Height: 5.00mm; Material - Metal: Phosphor Bronze; Material - Plating Mating: Tin-Bismuth; PCB Locator: No; PCB Retention: None; Pitch - Mating Interface: 1.25mm; Voltage (Max): 200V; PackageVersion: Rev. B, 04/2007; PackageReference: 39-53-2194; PackageDescription: 19-Lead FPC Connector, Pitch 1.25 mm; Contact Position: Top; Material - Plating Termination: Tin-Bismuth; Number of Rows: 1; Orientation: Right Angle; Packing: Tray; Polarized to PCB: No; RoHS: TRUE; Stackable: No; Mounting Technology: Through Hole; PartNumber: 39-53-2194; ComponentLink1Description: Manufacturer URL; ComponentLink1URL: http://www.molex.com/molex/index.jsp; ComponentLink2Description: Datasheet; ComponentLink2URL: http://www.molex.com/webdocs/datasheets/pdf/en-us/0039532194_FFC_FPC_CONNECTORS.pdf; ComponentLink3Description: Package Specification; ComponentLink3URL: http://www.molex.com/pdm_docs/sd/039532194_sd.pdf
footprint MOLX-39-53-2194 (FPC Connector, 19-Leads, Right Angle, Pitch 1.25 mm, Mated Height 5.0 mm, Through Hole)
pins: 1, 2, 3, 4, 5, 6, 7, 8, 9, 10, 11, 12, 13, 14, 15, 16, 17, 18, 19

## 39-53-2195
designator J?
1.25 mm Pitch FPC Connector, 7.5 mm Mated Height, Vertical, ZIF, Through Hole, 19 Circuits, -20 to 80 degC, ELV and RoHS Compliant, Tray; Manufacturer: Molex; Circuits (Loaded): 19; Current (Max per Contact): 1A; Durability (mating cycles max): 30; Mated Height: 7.50mm; Material - Metal: Phosphor Bronze; Material - Plating Mating: Tin-Bismuth; PCB Locator: No; PCB Retention: None; Pitch - Mating Interface: 1.25mm; Voltage (Max): 200V; PackageVersion: Rev. A, 12/2004; PackageReference: 39-53-2195; PackageDescription: 19-Lead FPC Connector, Pitch 1.25 mm; Contact Position: N/A; Entry Angle: Vertical; Material - Plating Termination: Tin-Bismuth; Number of Rows: 1; Orientation: Vertical; Packing: Tray; Polarized to PCB: No; RoHS: TRUE; Stackable: No; Mounting Technology: Through Hole; PartNumber: 39-53-2195; ComponentLink1Description: Manufacturer URL; ComponentLink1URL: http://www.molex.com/molex/index.jsp; ComponentLink2Description: Datasheet; ComponentLink2URL: http://www.molex.com/webdocs/datasheets/pdf/en-us/0039532195_FFC_FPC_CONNECTORS.pdf; ComponentLink3Description: Package Specification; ComponentLink3URL: http://www.molex.com/pdm_docs/sd/039532195_sd.pdf
footprint MOLX-39-53-2195 (FPC Connector, 19-Leads, Vertical, Pitch 1.25 mm, Mated Height 7.5 mm, Through Hole)
pins: 1, 2, 3, 4, 5, 6, 7, 8, 9, 10, 11, 12, 13, 14, 15, 16, 17, 18, 19

## 39-53-2204
designator J?
1.25 mm Pitch FPC Connector, 5.0 mm Mated Height, Right Angle, ZIF, Through Hole, Top Contact, 20 Circuits, -20 to 80 degC, ELV and RoHS Compliant, Tray; Manufacturer: Molex; Circuits (Loaded): 20; Current (Max per Contact): 1A; Durability (mating cycles max): 30; Entry Angle: 90degrees Angle; Mated Height: 5.00mm; Material - Metal: Phosphor Bronze; Material - Plating Mating: Tin-Bismuth; PCB Locator: No; PCB Retention: None; Pitch - Mating Interface: 1.25mm; Voltage (Max): 200V; PackageVersion: Rev. B, 04/2007; PackageReference: 39-53-2204; PackageDescription: 20-Lead FPC Connector, Pitch 1.25 mm; Contact Position: Top; Material - Plating Termination: Tin-Bismuth; Number of Rows: 1; Orientation: Right Angle; Packing: Tray; Polarized to PCB: No; RoHS: TRUE; Stackable: No; Mounting Technology: Through Hole; PartNumber: 39-53-2204; ComponentLink1Description: Manufacturer URL; ComponentLink1URL: http://www.molex.com/molex/index.jsp; ComponentLink2Description: Datasheet; ComponentLink2URL: http://www.molex.com/webdocs/datasheets/pdf/en-us/0039532204_FFC_FPC_CONNECTORS.pdf; ComponentLink3Description: Package Specification; ComponentLink3URL: http://www.molex.com/pdm_docs/sd/039532204_sd.pdf
footprint MOLX-39-53-2204 (FPC Connector, 20-Leads, Right Angle, Pitch 1.25 mm, Mated Height 5.0 mm, Through Hole)
pins: 1, 2, 3, 4, 5, 6, 7, 8, 9, 10, 11, 12, 13, 14, 15, 16, 17, 18, 19, 20

## 39-53-2205
designator J?
1.25 mm Pitch FPC Connector, 7.5 mm Mated Height, Vertical, ZIF, Through Hole, 20 Circuits, -20 to 80 degC, ELV and RoHS Compliant, Tray; Manufacturer: Molex; Circuits (Loaded): 20; Current (Max per Contact): 1A; Durability (mating cycles max): 30; Mated Height: 7.50mm; Material - Metal: Phosphor Bronze; Material - Plating Mating: Tin-Bismuth; PCB Locator: No; PCB Retention: None; Pitch - Mating Interface: 1.25mm; Voltage (Max): 200V; PackageVersion: Rev. A, 12/2004; PackageReference: 39-53-2205; PackageDescription: 20-Lead FPC Connector, Pitch 1.25 mm; Contact Position: N/A; Entry Angle: Vertical; Material - Plating Termination: Tin-Bismuth; Number of Rows: 1; Orientation: Vertical; Packing: Tray; Polarized to PCB: No; RoHS: TRUE; Stackable: No; Mounting Technology: Through Hole; PartNumber: 39-53-2205; ComponentLink1Description: Manufacturer URL; ComponentLink1URL: http://www.molex.com/molex/index.jsp; ComponentLink2Description: Datasheet; ComponentLink2URL: http://www.molex.com/webdocs/datasheets/pdf/en-us/0039532205_FFC_FPC_CONNECTORS.pdf; ComponentLink3Description: Package Specification; ComponentLink3URL: http://www.molex.com/pdm_docs/sd/039532205_sd.pdf
footprint MOLX-39-53-2205 (FPC Connector, 20-Leads, Vertical, Pitch 1.25 mm, Mated Height 7.5 mm, Through Hole)
pins: 1, 2, 3, 4, 5, 6, 7, 8, 9, 10, 11, 12, 13, 14, 15, 16, 17, 18, 19, 20